# Altium integrated library Lattice CPLD ispMACH 4000B.IntLib: 180 symbols (part 8 of 28)
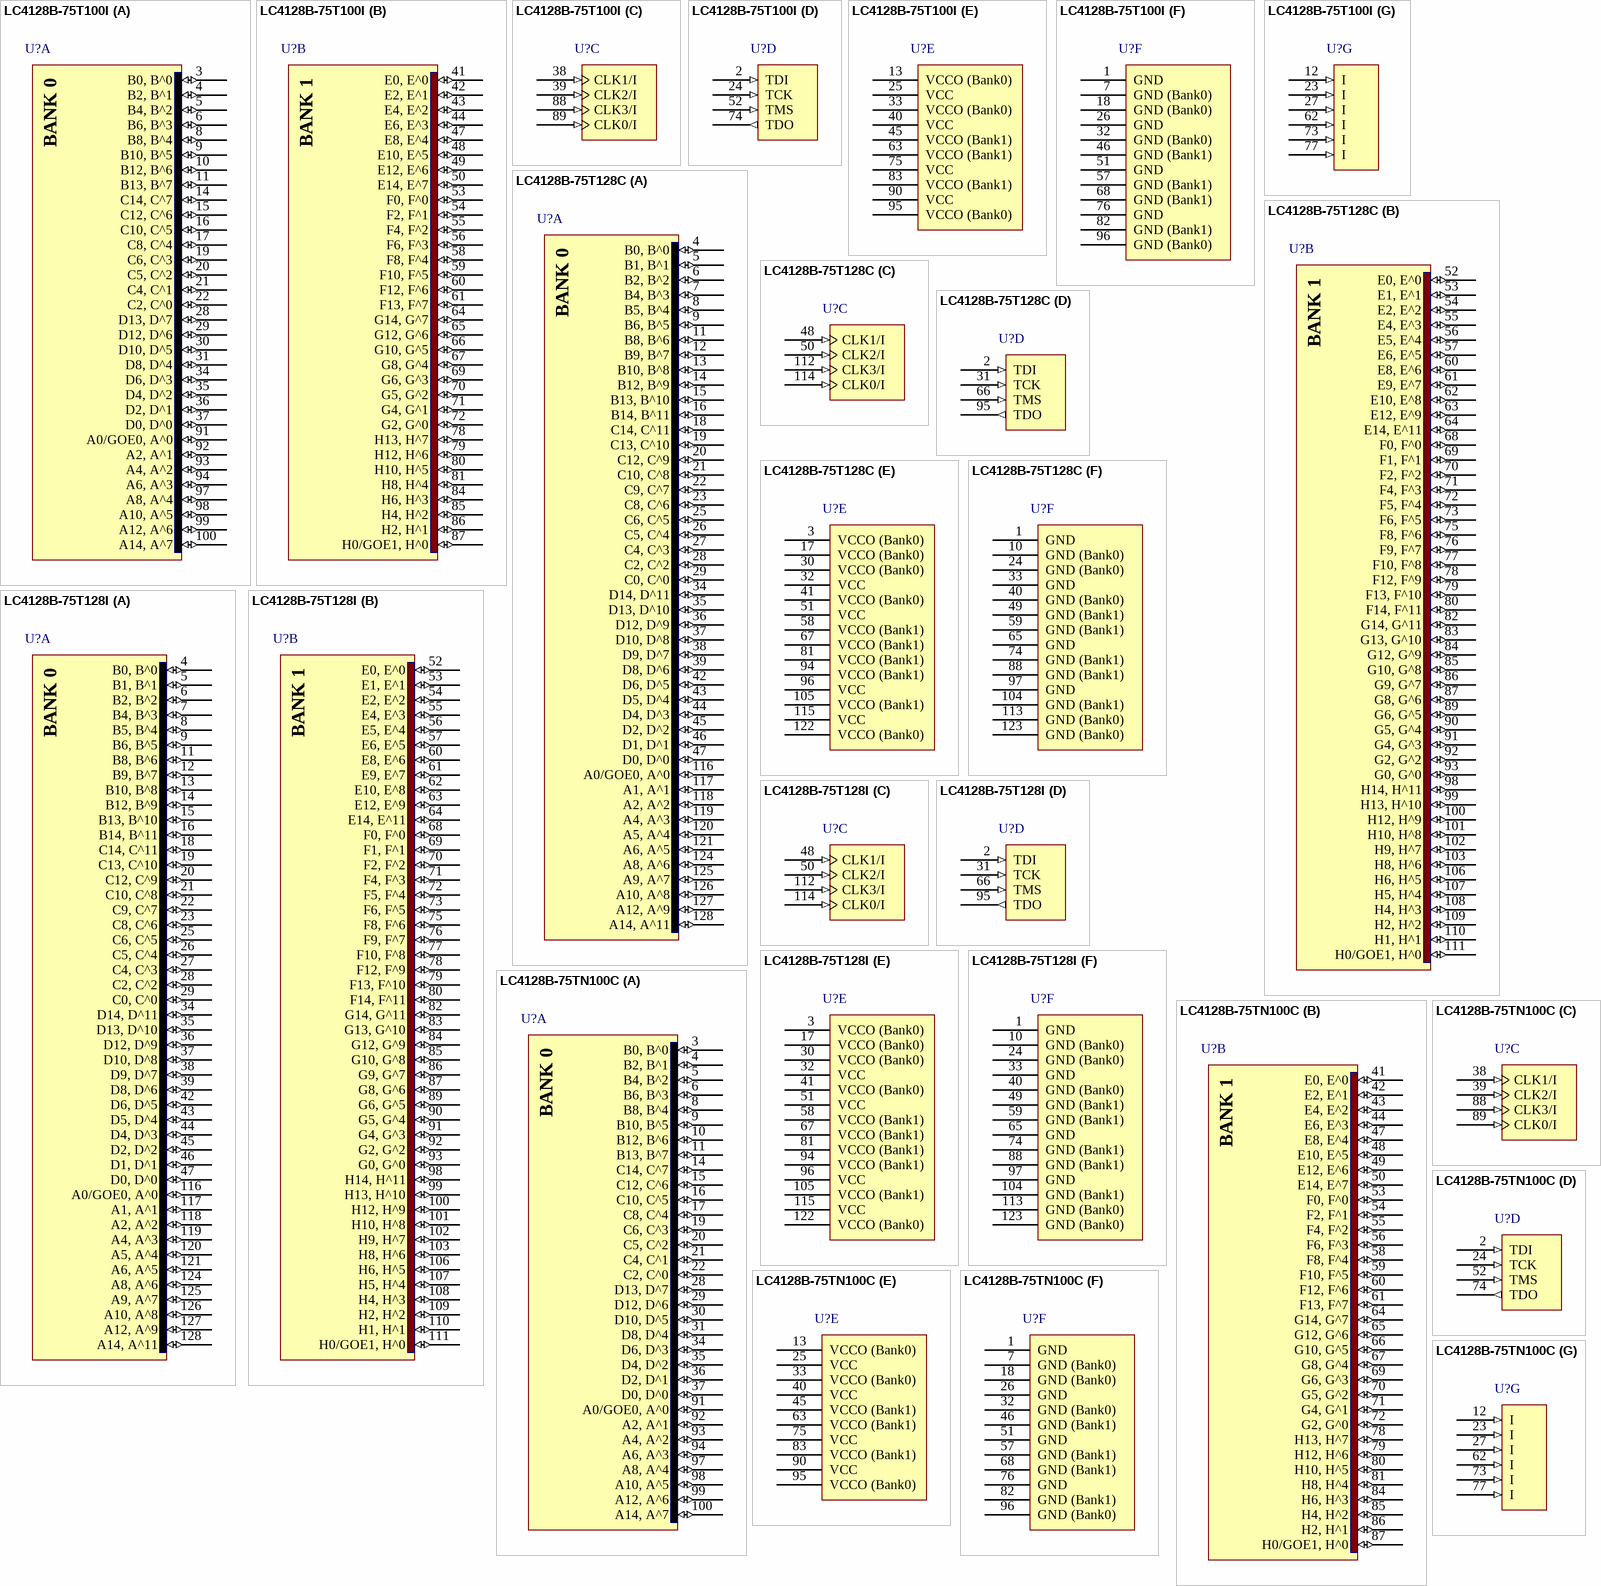
[diagram p85: symbols LC4128B-75T100I to LC4128B-75TN100C]

## LC4128B-75T128I
designator U?
ispMACH 4128 SuperFAST High Density PLD, 2.5 V, 92 User I/Os, 128-Pin TQFP, 7.5 ns, Industrial Grade; Published: 17-Dec-2003; LatestRevisionDate: 30-Mar-2007; LatestRevisionNote: Banks placed in parts.; DatasheetVersion: ver22.3, Mar-2007; PackageVersion: ver01.2 Feb-2007; PackageReference: TQFP128; Publisher: Altium Limited; PackageDescription: 128-Pin Thin Quad Flat Pack 0.4 mm Pitch (TQFP128); ComponentLink1Description: Manufacturer Link; ComponentLink1URL: http://www.latticesemi.com/; ComponentLink2Description: Datasheet; ComponentLink2URL: http://www.latticesemi.com/dynamic/view_document.cfm?document_id=3646
footprint TQFP128_N (Thin QFP, 128-Leads, Body 14x14mm, Pitch 0.4mm, IPC Medium Density)
footprint TQFP128_L (Thin QFP, 128-Leads, Body 14x14mm, Pitch 0.4mm, IPC High Density)
footprint TQFP128_M (Thin QFP, 128-Leads, Body 14x14mm, Pitch 0.4mm, IPC Low Density)
3D model 4128B-TQFP128 (128-Pin Thin Quad Flat Pack 0.4 mm Pitch (TQFP128))
part A pins: 4 B0, B^0 (io) "General purpose I/O.", 5 B1, B^1 (io) "General purpose I/O.", 6 B2, B^2 (io) "General purpose I/O.", 7 B4, B^3 (io) "General purpose I/O.", 8 B5, B^4 (io) "General purpose I/O.", 9 B6, B^5 (io) "General purpose I/O.", 11 B8, B^6 (io) "General purpose I/O.", 12 B9, B^7 (io) "General purpose I/O.", 13 B10, B^8 (io) "General purpose I/O.", 14 B12, B^9 (io) "General purpose I/O.", 15 B13, B^10 (io) "General purpose I/O.", 16 B14, B^11 (io) "General purpose I/O.", 18 C14, C^11 (io) "General purpose I/O.", 19 C13, C^10 (io) "General purpose I/O.", 20 C12, C^9 (io) "General purpose I/O.", 21 C10, C^8 (io) "General purpose I/O.", 22 C9, C^7 (io) "General purpose I/O.", 23 C8, C^6 (io) "General purpose I/O.", 25 C6, C^5 (io) "General purpose I/O.", 26 C5, C^4 (io) "General purpose I/O.", 27 C4, C^3 (io) "General purpose I/O.", 28 C2, C^2 (io) "General purpose I/O.", 29 C0, C^0 (io) "General purpose I/O.", 34 D14, D^11 (io) "General purpose I/O.", 35 D13, D^10 (io) "General purpose I/O.", 36 D12, D^9 (io) "General purpose I/O.", 37 D10, D^8 (io) "General purpose I/O.", 38 D9, D^7 (io) "General purpose I/O.", 39 D8, D^6 (io) "General purpose I/O.", 42 D6, D^5 (io) "General purpose I/O.", 43 D5, D^4 (io) "General purpose I/O.", 44 D4, D^3 (io) "General purpose I/O.", 45 D2, D^2 (io) "General purpose I/O.", 46 D1, D^1 (io) "General purpose I/O.", 47 D0, D^0 (io) "General purpose I/O.", 116 A0/GOE0, A^0 (io) "Either Global Output Enable Input or general I/O.", 117 A1, A^1 (io) "General purpose I/O.", 118 A2, A^2 (io) "General purpose I/O.", 119 A4, A^3 (io) "General purpose I/O.", 120 A5, A^4 (io) "General purpose I/O.", 121 A6, A^5 (io) "General purpose I/O.", 124 A8, A^6 (io) "General purpose I/O.", 125 A9, A^7 (io) "General purpose I/O.", 126 A10, A^8 (io) "General purpose I/O.", 127 A12, A^9 (io) "General purpose I/O.", 128 A14, A^11 (io) "General purpose I/O."
part B pins: 52 E0, E^0 (io) "General purpose I/O.", 53 E1, E^1 (io) "General purpose I/O.", 54 E2, E^2 (io) "General purpose I/O.", 55 E4, E^3 (io) "General purpose I/O.", 56 E5, E^4 (io) "General purpose I/O.", 57 E6, E^5 (io) "General purpose I/O.", 60 E8, E^6 (io) "General purpose I/O.", 61 E9, E^7 (io) "General purpose I/O.", 62 E10, E^8 (io) "General purpose I/O.", 63 E12, E^9 (io) "General purpose I/O.", 64 E14, E^11 (io) "General purpose I/O.", 68 F0, F^0 (io) "General purpose I/O.", 69 F1, F^1 (io) "General purpose I/O.", 70 F2, F^2 (io) "General purpose I/O.", 71 F4, F^3 (io) "General purpose I/O.", 72 F5, F^4 (io) "General purpose I/O.", 73 F6, F^5 (io) "General purpose I/O.", 75 F8, F^6 (io) "General purpose I/O.", 76 F9, F^7 (io) "General purpose I/O.", 77 F10, F^8 (io) "General purpose I/O.", 78 F12, F^9 (io) "General purpose I/O.", 79 F13, F^10 (io) "General purpose I/O.", 80 F14, F^11 (io) "General purpose I/O.", 82 G14, G^11 (io) "General purpose I/O.", 83 G13, G^10 (io) "General purpose I/O.", 84 G12, G^9 (io) "General purpose I/O.", 85 G10, G^8 (io) "General purpose I/O.", 86 G9, G^7 (io) "General purpose I/O.", 87 G8, G^6 (io) "General purpose I/O.", 89 G6, G^5 (io) "General purpose I/O.", 90 G5, G^4 (io) "General purpose I/O.", 91 G4, G^3 (io) "General purpose I/O.", 92 G2, G^2 (io) "General purpose I/O.", 93 G0, G^0 (io) "General purpose I/O.", 98 H14, H^11 (io) "General purpose I/O.", 99 H13, H^10 (io) "General purpose I/O.", 100 H12, H^9 (io) "General purpose I/O.", 101 H10, H^8 (io) "General purpose I/O.", 102 H9, H^7 (io) "General purpose I/O.", 103 H8, H^6 (io) "General purpose I/O.", 106 H6, H^5 (io) "General purpose I/O.", 107 H5, H^4 (io) "General purpose I/O.", 108 H4, H^3 (io) "General purpose I/O.", 109 H2, H^2 (io) "General purpose I/O.", 110 H1, H^1 (io) "General purpose I/O.", 111 H0/GOE1, H^0 (io) "Either Global Output Enable Input or general I/O."
part C pins: 48 CLK1/I (in) "Either CLK input or input.", 50 CLK2/I (in) "Either CLK input or input.", 112 CLK3/I (in) "Either CLK input or input.", 114 CLK0/I (in) "Either CLK input or input."
part D pins: 2 TDI (in) "Test Data Input. Loads data into device using 1149.1 state machine.", 31 TCK (in) "Test Clock Input for 1149.1 state machine.", 66 TMS (in) "Test Mode Select Input to control 1149.1 state machine.", 95 TDO (out) "Test Data Output. Shifts data out of device using 1149.1."
part E pins: 3 VCCO (Bank0) (power) "Power supply pin for I/O bank.", 17 VCCO (Bank0) (power) "Power supply pin for I/O bank.", 30 VCCO (Bank0) (power) "Power supply pin for I/O bank.", 32 VCC (power) "Power supply for logic core and JTAG port.", 41 VCCO (Bank0) (power) "Power supply pin for I/O bank.", 51 VCC (power) "Power supply for logic core and JTAG port.", 58 VCCO (Bank1) (power) "Power supply pin for I/O bank.", 67 VCCO (Bank1) (power) "Power supply pin for I/O bank.", 81 VCCO (Bank1) (power) "Power supply pin for I/O bank.", 94 VCCO (Bank1) (power) "Power supply pin for I/O bank.", 96 VCC (power) "Power supply for logic core and JTAG port.", 105 VCCO (Bank1) (power) "Power supply pin for I/O bank.", 115 VCC (power) "Power supply for logic core and JTAG port.", 122 VCCO (Bank0) (power) "Power supply pin for I/O bank."
part F pins: 1 GND (power) "Ground", 10 GND (Bank0) (power) "I/O Ground", 24 GND (Bank0) (power) "I/O Ground", 33 GND (power) "Ground", 40 GND (Bank0) (power) "I/O Ground", 49 GND (Bank1) (power) "I/O Ground", 59 GND (Bank1) (power) "I/O Ground", 65 GND (power) "Ground", 74 GND (Bank1) (power) "I/O Ground", 88 GND (Bank1) (power) "I/O Ground", 97 GND (power) "Ground", 104 GND (Bank1) (power) "I/O Ground", 113 GND (Bank0) (power) "I/O Ground", 123 GND (Bank0) (power) "I/O Ground"
part A text: BANK 0
part B text: BANK 1

## LC4128B-75TN100C
designator U?
ispMACH 4128 SuperFAST High Density PLD, 2.5 V, 64 User I/Os, 100-Pin TQFP, 7.5 ns, Commercial Grade, Pb-Free; Published: 6-Oct-2005; LatestRevisionDate: 30-Mar-2007; LatestRevisionNote: Banks placed in parts.; DatasheetVersion: ver22.3, Mar-2007; PackageVersion: ver01.2 Feb-2007; PackageReference: TQFP100; Publisher: Altium Limited; PackageDescription: 100-Pin Thin Quad Flat Pack (TQFP100); Code_JEDEC: MS-026-BED; ComponentLink1Description: Manufacturer Link; ComponentLink1URL: http://www.latticesemi.com/; ComponentLink2Description: Datasheet; ComponentLink2URL: http://www.latticesemi.com/dynamic/view_document.cfm?document_id=3646
footprint TQFP100_N (Thin QFP, 100-Leads, Body 14x14mm, Pitch 0.5mm, IPC Medium Density)
footprint TQFP100_L (Thin QFP, 100-Leads, Body 14x14mm, Pitch 0.5mm, IPC High Density)
footprint TQFP100_M (Thin QFP, 100-Leads, Body 14x14mm, Pitch 0.5mm, IPC Low Density)
3D model 4128B-TQFP100 (100-Pin Thin Quad Flat Pack (TQFP100))
part A pins: 3 B0, B^0 (io) "General purpose I/O.", 4 B2, B^1 (io) "General purpose I/O.", 5 B4, B^2 (io) "General purpose I/O.", 6 B6, B^3 (io) "General purpose I/O.", 8 B8, B^4 (io) "General purpose I/O.", 9 B10, B^5 (io) "General purpose I/O.", 10 B12, B^6 (io) "General purpose I/O.", 11 B13, B^7 (io) "General purpose I/O.", 14 C14, C^7 (io) "General purpose I/O.", 15 C12, C^6 (io) "General purpose I/O.", 16 C10, C^5 (io) "General purpose I/O.", 17 C8, C^4 (io) "General purpose I/O.", 19 C6, C^3 (io) "General purpose I/O.", 20 C5, C^2 (io) "General purpose I/O.", 21 C4, C^1 (io) "General purpose I/O.", 22 C2, C^0 (io) "General purpose I/O.", 28 D13, D^7 (io) "General purpose I/O.", 29 D12, D^6 (io) "General purpose I/O.", 30 D10, D^5 (io) "General purpose I/O.", 31 D8, D^4 (io) "General purpose I/O.", 34 D6, D^3 (io) "General purpose I/O.", 35 D4, D^2 (io) "General purpose I/O.", 36 D2, D^1 (io) "General purpose I/O.", 37 D0, D^0 (io) "General purpose I/O.", 91 A0/GOE0, A^0 (io) "Either Global Output Enable Input or general I/O.", 92 A2, A^1 (io) "General purpose I/O.", 93 A4, A^2 (io) "General purpose I/O.", 94 A6, A^3 (io) "General purpose I/O.", 97 A8, A^4 (io) "General purpose I/O.", 98 A10, A^5 (io) "General purpose I/O.", 99 A12, A^6 (io) "General purpose I/O.", 100 A14, A^7 (io) "General purpose I/O."
part B pins: 41 E0, E^0 (io) "General purpose I/O.", 42 E2, E^1 (io) "General purpose I/O.", 43 E4, E^2 (io) "General purpose I/O.", 44 E6, E^3 (io) "General purpose I/O.", 47 E8, E^4 (io) "General purpose I/O.", 48 E10, E^5 (io) "General purpose I/O.", 49 E12, E^6 (io) "General purpose I/O.", 50 E14, E^7 (io) "General purpose I/O.", 53 F0, F^0 (io) "General purpose I/O.", 54 F2, F^1 (io) "General purpose I/O.", 55 F4, F^2 (io) "General purpose I/O.", 56 F6, F^3 (io) "General purpose I/O.", 58 F8, F^4 (io) "General purpose I/O.", 59 F10, F^5 (io) "General purpose I/O.", 60 F12, F^6 (io) "General purpose I/O.", 61 F13, F^7 (io) "General purpose I/O.", 64 G14, G^7 (io) "General purpose I/O.", 65 G12, G^6 (io) "General purpose I/O.", 66 G10, G^5 (io) "General purpose I/O.", 67 G8, G^4 (io) "General purpose I/O.", 69 G6, G^3 (io) "General purpose I/O.", 70 G5, G^2 (io) "General purpose I/O.", 71 G4, G^1 (io) "General purpose I/O.", 72 G2, G^0 (io) "General purpose I/O.", 78 H13, H^7 (io) "General purpose I/O.", 79 H12, H^6 (io) "General purpose I/O.", 80 H10, H^5 (io) "General purpose I/O.", 81 H8, H^4 (io) "General purpose I/O.", 84 H6, H^3 (io) "General purpose I/O.", 85 H4, H^2 (io) "General purpose I/O.", 86 H2, H^1 (io) "General purpose I/O.", 87 H0/GOE1, H^0 (io) "Either Global Output Enable Input or general I/O."
part C pins: 38 CLK1/I (in) "Either CLK input or input.", 39 CLK2/I (in) "Either CLK input or input.", 88 CLK3/I (in) "Either CLK input or input.", 89 CLK0/I (in) "Either CLK input or input."
part D pins: 2 TDI (in) "Test Data Input. Loads data into device using 1149.1 state machine.", 24 TCK (in) "Test Clock Input for 1149.1 state machine.", 52 TMS (in) "Test Mode Select Input to control 1149.1 state machine.", 74 TDO (out) "Test Data Output. Shifts data out of device using 1149.1."
part E pins: 13 VCCO (Bank0) (power) "Power supply pin for I/O bank.", 25 VCC (power) "Power supply for logic core and JTAG port.", 33 VCCO (Bank0) (power) "Power supply pin for I/O bank.", 40 VCC (power) "Power supply for logic core and JTAG port.", 45 VCCO (Bank1) (power) "Power supply pin for I/O bank.", 63 VCCO (Bank1) (power) "Power supply pin for I/O bank.", 75 VCC (power) "Power supply for logic core and JTAG port.", 83 VCCO (Bank1) (power) "Power supply pin for I/O bank.", 90 VCC (power) "Power supply for logic core and JTAG port.", 95 VCCO (Bank0) (power) "Power supply pin for I/O bank."
part F pins: 1 GND (power) "Ground", 7 GND (Bank0) (power) "I/O Ground", 18 GND (Bank0) (power) "I/O Ground", 26 GND (power) "Ground", 32 GND (Bank0) (power) "I/O Ground", 46 GND (Bank1) (power) "I/O Ground", 51 GND (power) "Ground", 57 GND (Bank1) (power) "I/O Ground", 68 GND (Bank1) (power) "I/O Ground", 76 GND (power) "Ground", 82 GND (Bank1) (power) "I/O Ground", 96 GND (Bank0) (power) "I/O Ground"
part G pins: 12 I (in) "Input Signal Pin.", 23 I (in) "Input Signal Pin.", 27 I (in) "Input Signal Pin.", 62 I (in) "Input Signal Pin.", 73 I (in) "Input Signal Pin.", 77 I (in) "Input Signal Pin."
part A text: BANK 0
part B text: BANK 1

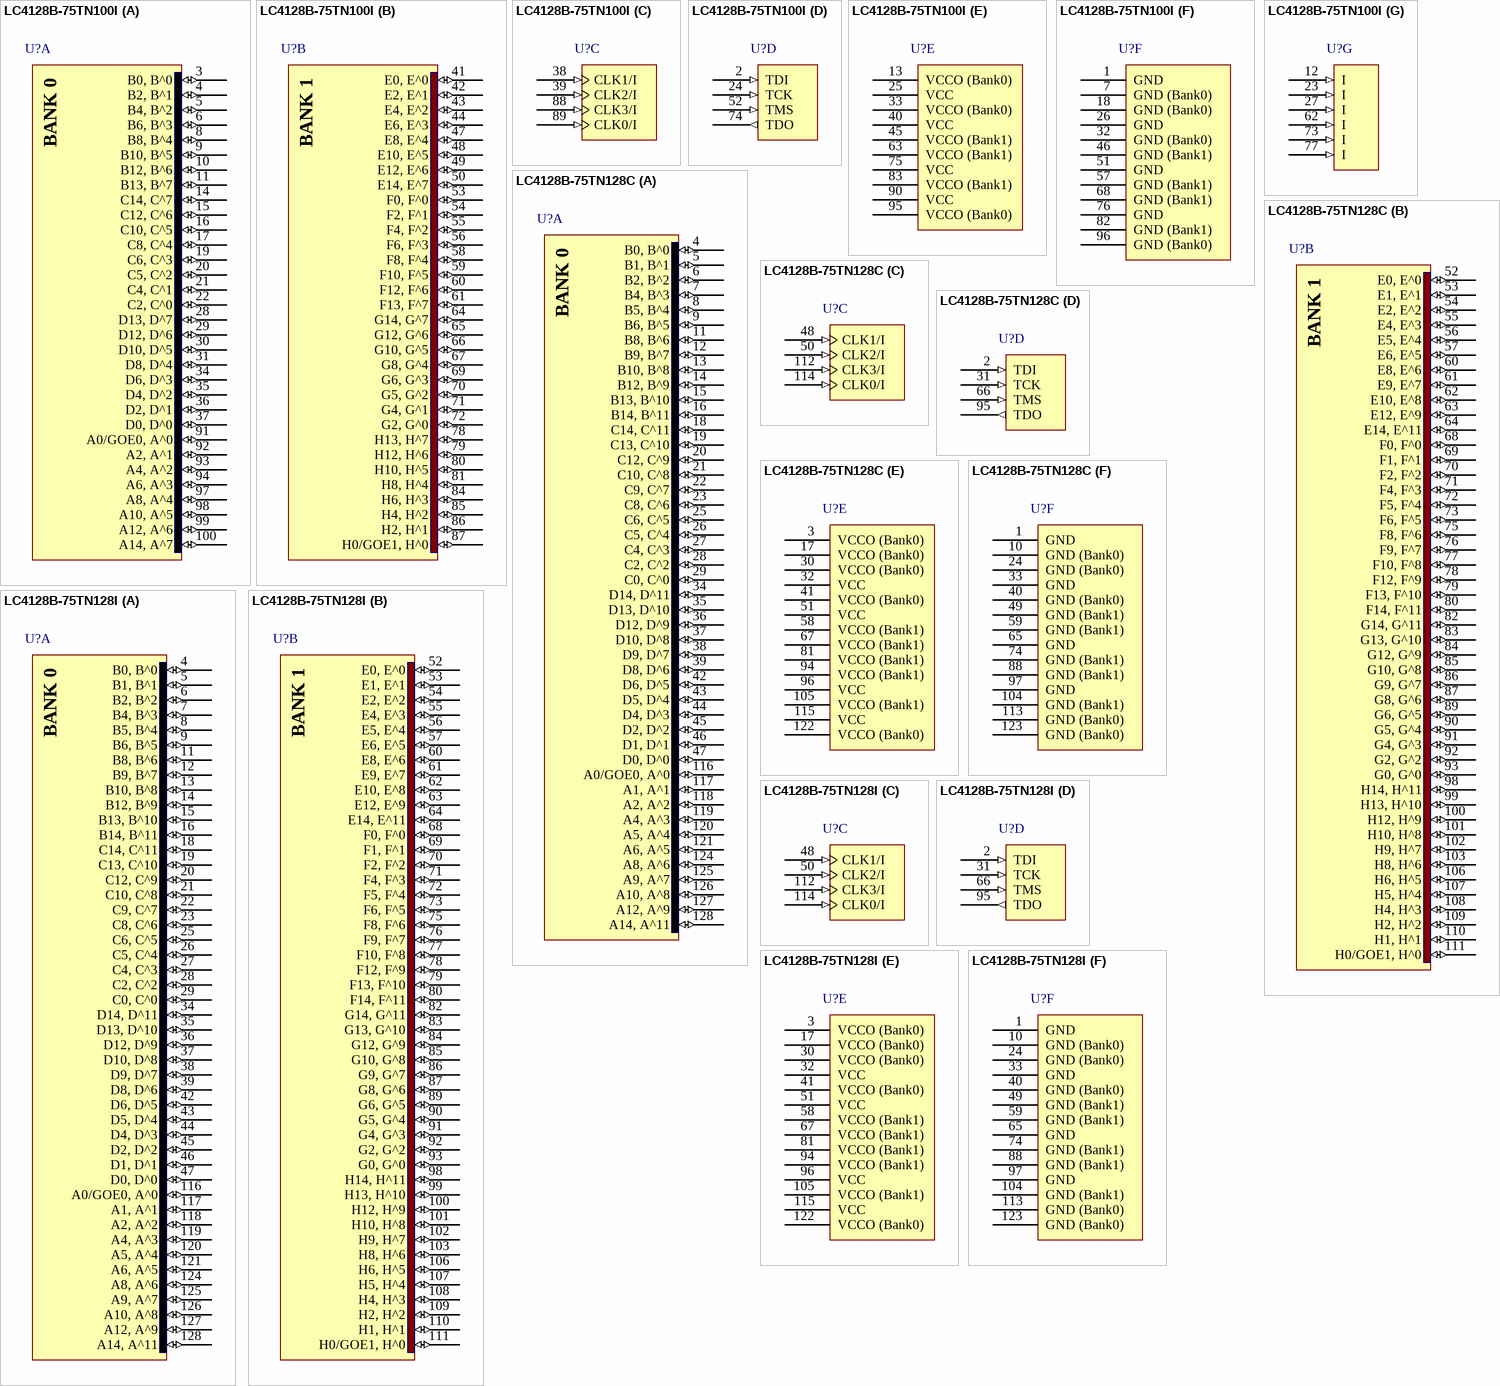
[diagram p16: symbols LC4128B-75TN100I to LC4128B-75TN128I]

## LC4128B-75TN100I
designator U?
ispMACH 4128 SuperFAST High Density PLD, 2.5 V, 64 User I/Os, 100-Pin TQFP, 7.5 ns, Industrial Grade, Pb-Free; Published: 6-Oct-2005; LatestRevisionDate: 30-Mar-2007; LatestRevisionNote: Banks placed in parts.; DatasheetVersion: ver22.3, Mar-2007; PackageVersion: ver01.2 Feb-2007; PackageReference: TQFP100; Publisher: Altium Limited; PackageDescription: 100-Pin Thin Quad Flat Pack (TQFP100); Code_JEDEC: MS-026-BED; ComponentLink1Description: Manufacturer Link; ComponentLink1URL: http://www.latticesemi.com/; ComponentLink2Description: Datasheet; ComponentLink2URL: http://www.latticesemi.com/dynamic/view_document.cfm?document_id=3646
footprint TQFP100_N (Thin QFP, 100-Leads, Body 14x14mm, Pitch 0.5mm, IPC Medium Density)
footprint TQFP100_L (Thin QFP, 100-Leads, Body 14x14mm, Pitch 0.5mm, IPC High Density)
footprint TQFP100_M (Thin QFP, 100-Leads, Body 14x14mm, Pitch 0.5mm, IPC Low Density)
3D model 4128B-TQFP100 (100-Pin Thin Quad Flat Pack (TQFP100))
part A pins: 3 B0, B^0 (io) "General purpose I/O.", 4 B2, B^1 (io) "General purpose I/O.", 5 B4, B^2 (io) "General purpose I/O.", 6 B6, B^3 (io) "General purpose I/O.", 8 B8, B^4 (io) "General purpose I/O.", 9 B10, B^5 (io) "General purpose I/O.", 10 B12, B^6 (io) "General purpose I/O.", 11 B13, B^7 (io) "General purpose I/O.", 14 C14, C^7 (io) "General purpose I/O.", 15 C12, C^6 (io) "General purpose I/O.", 16 C10, C^5 (io) "General purpose I/O.", 17 C8, C^4 (io) "General purpose I/O.", 19 C6, C^3 (io) "General purpose I/O.", 20 C5, C^2 (io) "General purpose I/O.", 21 C4, C^1 (io) "General purpose I/O.", 22 C2, C^0 (io) "General purpose I/O.", 28 D13, D^7 (io) "General purpose I/O.", 29 D12, D^6 (io) "General purpose I/O.", 30 D10, D^5 (io) "General purpose I/O.", 31 D8, D^4 (io) "General purpose I/O.", 34 D6, D^3 (io) "General purpose I/O.", 35 D4, D^2 (io) "General purpose I/O.", 36 D2, D^1 (io) "General purpose I/O.", 37 D0, D^0 (io) "General purpose I/O.", 91 A0/GOE0, A^0 (io) "Either Global Output Enable Input or general I/O.", 92 A2, A^1 (io) "General purpose I/O.", 93 A4, A^2 (io) "General purpose I/O.", 94 A6, A^3 (io) "General purpose I/O.", 97 A8, A^4 (io) "General purpose I/O.", 98 A10, A^5 (io) "General purpose I/O.", 99 A12, A^6 (io) "General purpose I/O.", 100 A14, A^7 (io) "General purpose I/O."
part B pins: 41 E0, E^0 (io) "General purpose I/O.", 42 E2, E^1 (io) "General purpose I/O.", 43 E4, E^2 (io) "General purpose I/O.", 44 E6, E^3 (io) "General purpose I/O.", 47 E8, E^4 (io) "General purpose I/O.", 48 E10, E^5 (io) "General purpose I/O.", 49 E12, E^6 (io) "General purpose I/O.", 50 E14, E^7 (io) "General purpose I/O.", 53 F0, F^0 (io) "General purpose I/O.", 54 F2, F^1 (io) "General purpose I/O.", 55 F4, F^2 (io) "General purpose I/O.", 56 F6, F^3 (io) "General purpose I/O.", 58 F8, F^4 (io) "General purpose I/O.", 59 F10, F^5 (io) "General purpose I/O.", 60 F12, F^6 (io) "General purpose I/O.", 61 F13, F^7 (io) "General purpose I/O.", 64 G14, G^7 (io) "General purpose I/O.", 65 G12, G^6 (io) "General purpose I/O.", 66 G10, G^5 (io) "General purpose I/O.", 67 G8, G^4 (io) "General purpose I/O.", 69 G6, G^3 (io) "General purpose I/O.", 70 G5, G^2 (io) "General purpose I/O.", 71 G4, G^1 (io) "General purpose I/O.", 72 G2, G^0 (io) "General purpose I/O.", 78 H13, H^7 (io) "General purpose I/O.", 79 H12, H^6 (io) "General purpose I/O.", 80 H10, H^5 (io) "General purpose I/O.", 81 H8, H^4 (io) "General purpose I/O.", 84 H6, H^3 (io) "General purpose I/O.", 85 H4, H^2 (io) "General purpose I/O.", 86 H2, H^1 (io) "General purpose I/O.", 87 H0/GOE1, H^0 (io) "Either Global Output Enable Input or general I/O."
part C pins: 38 CLK1/I (in) "Either CLK input or input.", 39 CLK2/I (in) "Either CLK input or input.", 88 CLK3/I (in) "Either CLK input or input.", 89 CLK0/I (in) "Either CLK input or input."
part D pins: 2 TDI (in) "Test Data Input. Loads data into device using 1149.1 state machine.", 24 TCK (in) "Test Clock Input for 1149.1 state machine.", 52 TMS (in) "Test Mode Select Input to control 1149.1 state machine.", 74 TDO (out) "Test Data Output. Shifts data out of device using 1149.1."
part E pins: 13 VCCO (Bank0) (power) "Power supply pin for I/O bank.", 25 VCC (power) "Power supply for logic core and JTAG port.", 33 VCCO (Bank0) (power) "Power supply pin for I/O bank.", 40 VCC (power) "Power supply for logic core and JTAG port.", 45 VCCO (Bank1) (power) "Power supply pin for I/O bank.", 63 VCCO (Bank1) (power) "Power supply pin for I/O bank.", 75 VCC (power) "Power supply for logic core and JTAG port.", 83 VCCO (Bank1) (power) "Power supply pin for I/O bank.", 90 VCC (power) "Power supply for logic core and JTAG port.", 95 VCCO (Bank0) (power) "Power supply pin for I/O bank."
part F pins: 1 GND (power) "Ground", 7 GND (Bank0) (power) "I/O Ground", 18 GND (Bank0) (power) "I/O Ground", 26 GND (power) "Ground", 32 GND (Bank0) (power) "I/O Ground", 46 GND (Bank1) (power) "I/O Ground", 51 GND (power) "Ground", 57 GND (Bank1) (power) "I/O Ground", 68 GND (Bank1) (power) "I/O Ground", 76 GND (power) "Ground", 82 GND (Bank1) (power) "I/O Ground", 96 GND (Bank0) (power) "I/O Ground"
part G pins: 12 I (in) "Input Signal Pin.", 23 I (in) "Input Signal Pin.", 27 I (in) "Input Signal Pin.", 62 I (in) "Input Signal Pin.", 73 I (in) "Input Signal Pin.", 77 I (in) "Input Signal Pin."
part A text: BANK 0
part B text: BANK 1

## LC4128B-75TN128C
designator U?
ispMACH 4128 SuperFAST High Density PLD, 2.5 V, 92 User I/Os, 128-Pin TQFP, 7.5 ns, Commercial Grade, Pb-Free; Published: 6-Oct-2005; LatestRevisionDate: 30-Mar-2007; LatestRevisionNote: Banks placed in parts.; DatasheetVersion: ver22.3, Mar-2007; PackageVersion: ver01.2 Feb-2007; PackageReference: TQFP128; Publisher: Altium Limited; PackageDescription: 128-Pin Thin Quad Flat Pack 0.4 mm Pitch (TQFP128); ComponentLink1Description: Manufacturer Link; ComponentLink1URL: http://www.latticesemi.com/; ComponentLink2Description: Datasheet; ComponentLink2URL: http://www.latticesemi.com/dynamic/view_document.cfm?document_id=3646
footprint TQFP128_N (Thin QFP, 128-Leads, Body 14x14mm, Pitch 0.4mm, IPC Medium Density)
footprint TQFP128_L (Thin QFP, 128-Leads, Body 14x14mm, Pitch 0.4mm, IPC High Density)
footprint TQFP128_M (Thin QFP, 128-Leads, Body 14x14mm, Pitch 0.4mm, IPC Low Density)
3D model 4128B-TQFP128 (128-Pin Thin Quad Flat Pack 0.4 mm Pitch (TQFP128))
part A pins: 4 B0, B^0 (io) "General purpose I/O.", 5 B1, B^1 (io) "General purpose I/O.", 6 B2, B^2 (io) "General purpose I/O.", 7 B4, B^3 (io) "General purpose I/O.", 8 B5, B^4 (io) "General purpose I/O.", 9 B6, B^5 (io) "General purpose I/O.", 11 B8, B^6 (io) "General purpose I/O.", 12 B9, B^7 (io) "General purpose I/O.", 13 B10, B^8 (io) "General purpose I/O.", 14 B12, B^9 (io) "General purpose I/O.", 15 B13, B^10 (io) "General purpose I/O.", 16 B14, B^11 (io) "General purpose I/O.", 18 C14, C^11 (io) "General purpose I/O.", 19 C13, C^10 (io) "General purpose I/O.", 20 C12, C^9 (io) "General purpose I/O.", 21 C10, C^8 (io) "General purpose I/O.", 22 C9, C^7 (io) "General purpose I/O.", 23 C8, C^6 (io) "General purpose I/O.", 25 C6, C^5 (io) "General purpose I/O.", 26 C5, C^4 (io) "General purpose I/O.", 27 C4, C^3 (io) "General purpose I/O.", 28 C2, C^2 (io) "General purpose I/O.", 29 C0, C^0 (io) "General purpose I/O.", 34 D14, D^11 (io) "General purpose I/O.", 35 D13, D^10 (io) "General purpose I/O.", 36 D12, D^9 (io) "General purpose I/O.", 37 D10, D^8 (io) "General purpose I/O.", 38 D9, D^7 (io) "General purpose I/O.", 39 D8, D^6 (io) "General purpose I/O.", 42 D6, D^5 (io) "General purpose I/O.", 43 D5, D^4 (io) "General purpose I/O.", 44 D4, D^3 (io) "General purpose I/O.", 45 D2, D^2 (io) "General purpose I/O.", 46 D1, D^1 (io) "General purpose I/O.", 47 D0, D^0 (io) "General purpose I/O.", 116 A0/GOE0, A^0 (io) "Either Global Output Enable Input or general I/O.", 117 A1, A^1 (io) "General purpose I/O.", 118 A2, A^2 (io) "General purpose I/O.", 119 A4, A^3 (io) "General purpose I/O.", 120 A5, A^4 (io) "General purpose I/O.", 121 A6, A^5 (io) "General purpose I/O.", 124 A8, A^6 (io) "General purpose I/O.", 125 A9, A^7 (io) "General purpose I/O.", 126 A10, A^8 (io) "General purpose I/O.", 127 A12, A^9 (io) "General purpose I/O.", 128 A14, A^11 (io) "General purpose I/O."
part B pins: 52 E0, E^0 (io) "General purpose I/O.", 53 E1, E^1 (io) "General purpose I/O.", 54 E2, E^2 (io) "General purpose I/O.", 55 E4, E^3 (io) "General purpose I/O.", 56 E5, E^4 (io) "General purpose I/O.", 57 E6, E^5 (io) "General purpose I/O.", 60 E8, E^6 (io) "General purpose I/O.", 61 E9, E^7 (io) "General purpose I/O.", 62 E10, E^8 (io) "General purpose I/O.", 63 E12, E^9 (io) "General purpose I/O.", 64 E14, E^11 (io) "General purpose I/O.", 68 F0, F^0 (io) "General purpose I/O.", 69 F1, F^1 (io) "General purpose I/O.", 70 F2, F^2 (io) "General purpose I/O.", 71 F4, F^3 (io) "General purpose I/O.", 72 F5, F^4 (io) "General purpose I/O.", 73 F6, F^5 (io) "General purpose I/O.", 75 F8, F^6 (io) "General purpose I/O.", 76 F9, F^7 (io) "General purpose I/O.", 77 F10, F^8 (io) "General purpose I/O.", 78 F12, F^9 (io) "General purpose I/O.", 79 F13, F^10 (io) "General purpose I/O.", 80 F14, F^11 (io) "General purpose I/O.", 82 G14, G^11 (io) "General purpose I/O.", 83 G13, G^10 (io) "General purpose I/O.", 84 G12, G^9 (io) "General purpose I/O.", 85 G10, G^8 (io) "General purpose I/O.", 86 G9, G^7 (io) "General purpose I/O.", 87 G8, G^6 (io) "General purpose I/O.", 89 G6, G^5 (io) "General purpose I/O.", 90 G5, G^4 (io) "General purpose I/O.", 91 G4, G^3 (io) "General purpose I/O.", 92 G2, G^2 (io) "General purpose I/O.", 93 G0, G^0 (io) "General purpose I/O.", 98 H14, H^11 (io) "General purpose I/O.", 99 H13, H^10 (io) "General purpose I/O.", 100 H12, H^9 (io) "General purpose I/O.", 101 H10, H^8 (io) "General purpose I/O.", 102 H9, H^7 (io) "General purpose I/O.", 103 H8, H^6 (io) "General purpose I/O.", 106 H6, H^5 (io) "General purpose I/O.", 107 H5, H^4 (io) "General purpose I/O.", 108 H4, H^3 (io) "General purpose I/O.", 109 H2, H^2 (io) "General purpose I/O.", 110 H1, H^1 (io) "General purpose I/O.", 111 H0/GOE1, H^0 (io) "Either Global Output Enable Input or general I/O."
part C pins: 48 CLK1/I (in) "Either CLK input or input.", 50 CLK2/I (in) "Either CLK input or input.", 112 CLK3/I (in) "Either CLK input or input.", 114 CLK0/I (in) "Either CLK input or input."
part D pins: 2 TDI (in) "Test Data Input. Loads data into device using 1149.1 state machine.", 31 TCK (in) "Test Clock Input for 1149.1 state machine.", 66 TMS (in) "Test Mode Select Input to control 1149.1 state machine.", 95 TDO (out) "Test Data Output. Shifts data out of device using 1149.1."
part E pins: 3 VCCO (Bank0) (power) "Power supply pin for I/O bank.", 17 VCCO (Bank0) (power) "Power supply pin for I/O bank.", 30 VCCO (Bank0) (power) "Power supply pin for I/O bank.", 32 VCC (power) "Power supply for logic core and JTAG port.", 41 VCCO (Bank0) (power) "Power supply pin for I/O bank.", 51 VCC (power) "Power supply for logic core and JTAG port.", 58 VCCO (Bank1) (power) "Power supply pin for I/O bank.", 67 VCCO (Bank1) (power) "Power supply pin for I/O bank.", 81 VCCO (Bank1) (power) "Power supply pin for I/O bank.", 94 VCCO (Bank1) (power) "Power supply pin for I/O bank.", 96 VCC (power) "Power supply for logic core and JTAG port.", 105 VCCO (Bank1) (power) "Power supply pin for I/O bank.", 115 VCC (power) "Power supply for logic core and JTAG port.", 122 VCCO (Bank0) (power) "Power supply pin for I/O bank."
part F pins: 1 GND (power) "Ground", 10 GND (Bank0) (power) "I/O Ground", 24 GND (Bank0) (power) "I/O Ground", 33 GND (power) "Ground", 40 GND (Bank0) (power) "I/O Ground", 49 GND (Bank1) (power) "I/O Ground", 59 GND (Bank1) (power) "I/O Ground", 65 GND (power) "Ground", 74 GND (Bank1) (power) "I/O Ground", 88 GND (Bank1) (power) "I/O Ground", 97 GND (power) "Ground", 104 GND (Bank1) (power) "I/O Ground", 113 GND (Bank0) (power) "I/O Ground", 123 GND (Bank0) (power) "I/O Ground"
part A text: BANK 0
part B text: BANK 1

## LC4128B-75TN128I
designator U?
ispMACH 4128 SuperFAST High Density PLD, 2.5 V, 92 User I/Os, 128-Pin TQFP, 7.5 ns, Industrial Grade, Pb-Free; Published: 6-Oct-2005; LatestRevisionDate: 30-Mar-2007; LatestRevisionNote: Banks placed in parts.; DatasheetVersion: ver22.3, Mar-2007; PackageVersion: ver01.2 Feb-2007; PackageReference: TQFP128; Publisher: Altium Limited; PackageDescription: 128-Pin Thin Quad Flat Pack 0.4 mm Pitch (TQFP128); ComponentLink1Description: Manufacturer Link; ComponentLink1URL: http://www.latticesemi.com/; ComponentLink2Description: Datasheet; ComponentLink2URL: http://www.latticesemi.com/dynamic/view_document.cfm?document_id=3646
footprint TQFP128_N (Thin QFP, 128-Leads, Body 14x14mm, Pitch 0.4mm, IPC Medium Density)
footprint TQFP128_L (Thin QFP, 128-Leads, Body 14x14mm, Pitch 0.4mm, IPC High Density)
footprint TQFP128_M (Thin QFP, 128-Leads, Body 14x14mm, Pitch 0.4mm, IPC Low Density)
3D model 4128B-TQFP128 (128-Pin Thin Quad Flat Pack 0.4 mm Pitch (TQFP128))
part A pins: 4 B0, B^0 (io) "General purpose I/O.", 5 B1, B^1 (io) "General purpose I/O.", 6 B2, B^2 (io) "General purpose I/O.", 7 B4, B^3 (io) "General purpose I/O.", 8 B5, B^4 (io) "General purpose I/O.", 9 B6, B^5 (io) "General purpose I/O.", 11 B8, B^6 (io) "General purpose I/O.", 12 B9, B^7 (io) "General purpose I/O.", 13 B10, B^8 (io) "General purpose I/O.", 14 B12, B^9 (io) "General purpose I/O.", 15 B13, B^10 (io) "General purpose I/O.", 16 B14, B^11 (io) "General purpose I/O.", 18 C14, C^11 (io) "General purpose I/O.", 19 C13, C^10 (io) "General purpose I/O.", 20 C12, C^9 (io) "General purpose I/O.", 21 C10, C^8 (io) "General purpose I/O.", 22 C9, C^7 (io) "General purpose I/O.", 23 C8, C^6 (io) "General purpose I/O.", 25 C6, C^5 (io) "General purpose I/O.", 26 C5, C^4 (io) "General purpose I/O.", 27 C4, C^3 (io) "General purpose I/O.", 28 C2, C^2 (io) "General purpose I/O.", 29 C0, C^0 (io) "General purpose I/O.", 34 D14, D^11 (io) "General purpose I/O.", 35 D13, D^10 (io) "General purpose I/O.", 36 D12, D^9 (io) "General purpose I/O.", 37 D10, D^8 (io) "General purpose I/O.", 38 D9, D^7 (io) "General purpose I/O.", 39 D8, D^6 (io) "General purpose I/O.", 42 D6, D^5 (io) "General purpose I/O.", 43 D5, D^4 (io) "General purpose I/O.", 44 D4, D^3 (io) "General purpose I/O.", 45 D2, D^2 (io) "General purpose I/O.", 46 D1, D^1 (io) "General purpose I/O.", 47 D0, D^0 (io) "General purpose I/O.", 116 A0/GOE0, A^0 (io) "Either Global Output Enable Input or general I/O.", 117 A1, A^1 (io) "General purpose I/O.", 118 A2, A^2 (io) "General purpose I/O.", 119 A4, A^3 (io) "General purpose I/O.", 120 A5, A^4 (io) "General purpose I/O.", 121 A6, A^5 (io) "General purpose I/O.", 124 A8, A^6 (io) "General purpose I/O.", 125 A9, A^7 (io) "General purpose I/O.", 126 A10, A^8 (io) "General purpose I/O.", 127 A12, A^9 (io) "General purpose I/O.", 128 A14, A^11 (io) "General purpose I/O."
part B pins: 52 E0, E^0 (io) "General purpose I/O.", 53 E1, E^1 (io) "General purpose I/O.", 54 E2, E^2 (io) "General purpose I/O.", 55 E4, E^3 (io) "General purpose I/O.", 56 E5, E^4 (io) "General purpose I/O.", 57 E6, E^5 (io) "General purpose I/O.", 60 E8, E^6 (io) "General purpose I/O.", 61 E9, E^7 (io) "General purpose I/O.", 62 E10, E^8 (io) "General purpose I/O.", 63 E12, E^9 (io) "General purpose I/O.", 64 E14, E^11 (io) "General purpose I/O.", 68 F0, F^0 (io) "General purpose I/O.", 69 F1, F^1 (io) "General purpose I/O.", 70 F2, F^2 (io) "General purpose I/O.", 71 F4, F^3 (io) "General purpose I/O.", 72 F5, F^4 (io) "General purpose I/O.", 73 F6, F^5 (io) "General purpose I/O.", 75 F8, F^6 (io) "General purpose I/O.", 76 F9, F^7 (io) "General purpose I/O.", 77 F10, F^8 (io) "General purpose I/O.", 78 F12, F^9 (io) "General purpose I/O.", 79 F13, F^10 (io) "General purpose I/O.", 80 F14, F^11 (io) "General purpose I/O.", 82 G14, G^11 (io) "General purpose I/O.", 83 G13, G^10 (io) "General purpose I/O.", 84 G12, G^9 (io) "General purpose I/O.", 85 G10, G^8 (io) "General purpose I/O.", 86 G9, G^7 (io) "General purpose I/O.", 87 G8, G^6 (io) "General purpose I/O.", 89 G6, G^5 (io) "General purpose I/O.", 90 G5, G^4 (io) "General purpose I/O.", 91 G4, G^3 (io) "General purpose I/O.", 92 G2, G^2 (io) "General purpose I/O.", 93 G0, G^0 (io) "General purpose I/O.", 98 H14, H^11 (io) "General purpose I/O.", 99 H13, H^10 (io) "General purpose I/O.", 100 H12, H^9 (io) "General purpose I/O.", 101 H10, H^8 (io) "General purpose I/O.", 102 H9, H^7 (io) "General purpose I/O.", 103 H8, H^6 (io) "General purpose I/O.", 106 H6, H^5 (io) "General purpose I/O.", 107 H5, H^4 (io) "General purpose I/O.", 108 H4, H^3 (io) "General purpose I/O.", 109 H2, H^2 (io) "General purpose I/O.", 110 H1, H^1 (io) "General purpose I/O.", 111 H0/GOE1, H^0 (io) "Either Global Output Enable Input or general I/O."
part C pins: 48 CLK1/I (in) "Either CLK input or input.", 50 CLK2/I (in) "Either CLK input or input.", 112 CLK3/I (in) "Either CLK input or input.", 114 CLK0/I (in) "Either CLK input or input."
part D pins: 2 TDI (in) "Test Data Input. Loads data into device using 1149.1 state machine.", 31 TCK (in) "Test Clock Input for 1149.1 state machine.", 66 TMS (in) "Test Mode Select Input to control 1149.1 state machine.", 95 TDO (out) "Test Data Output. Shifts data out of device using 1149.1."
part E pins: 3 VCCO (Bank0) (power) "Power supply pin for I/O bank.", 17 VCCO (Bank0) (power) "Power supply pin for I/O bank.", 30 VCCO (Bank0) (power) "Power supply pin for I/O bank.", 32 VCC (power) "Power supply for logic core and JTAG port.", 41 VCCO (Bank0) (power) "Power supply pin for I/O bank.", 51 VCC (power) "Power supply for logic core and JTAG port.", 58 VCCO (Bank1) (power) "Power supply pin for I/O bank.", 67 VCCO (Bank1) (power) "Power supply pin for I/O bank.", 81 VCCO (Bank1) (power) "Power supply pin for I/O bank.", 94 VCCO (Bank1) (power) "Power supply pin for I/O bank.", 96 VCC (power) "Power supply for logic core and JTAG port.", 105 VCCO (Bank1) (power) "Power supply pin for I/O bank.", 115 VCC (power) "Power supply for logic core and JTAG port.", 122 VCCO (Bank0) (power) "Power supply pin for I/O bank."
part F pins: 1 GND (power) "Ground", 10 GND (Bank0) (power) "I/O Ground", 24 GND (Bank0) (power) "I/O Ground", 33 GND (power) "Ground", 40 GND (Bank0) (power) "I/O Ground", 49 GND (Bank1) (power) "I/O Ground", 59 GND (Bank1) (power) "I/O Ground", 65 GND (power) "Ground", 74 GND (Bank1) (power) "I/O Ground", 88 GND (Bank1) (power) "I/O Ground", 97 GND (power) "Ground", 104 GND (Bank1) (power) "I/O Ground", 113 GND (Bank0) (power) "I/O Ground", 123 GND (Bank0) (power) "I/O Ground"
part A text: BANK 0
part B text: BANK 1

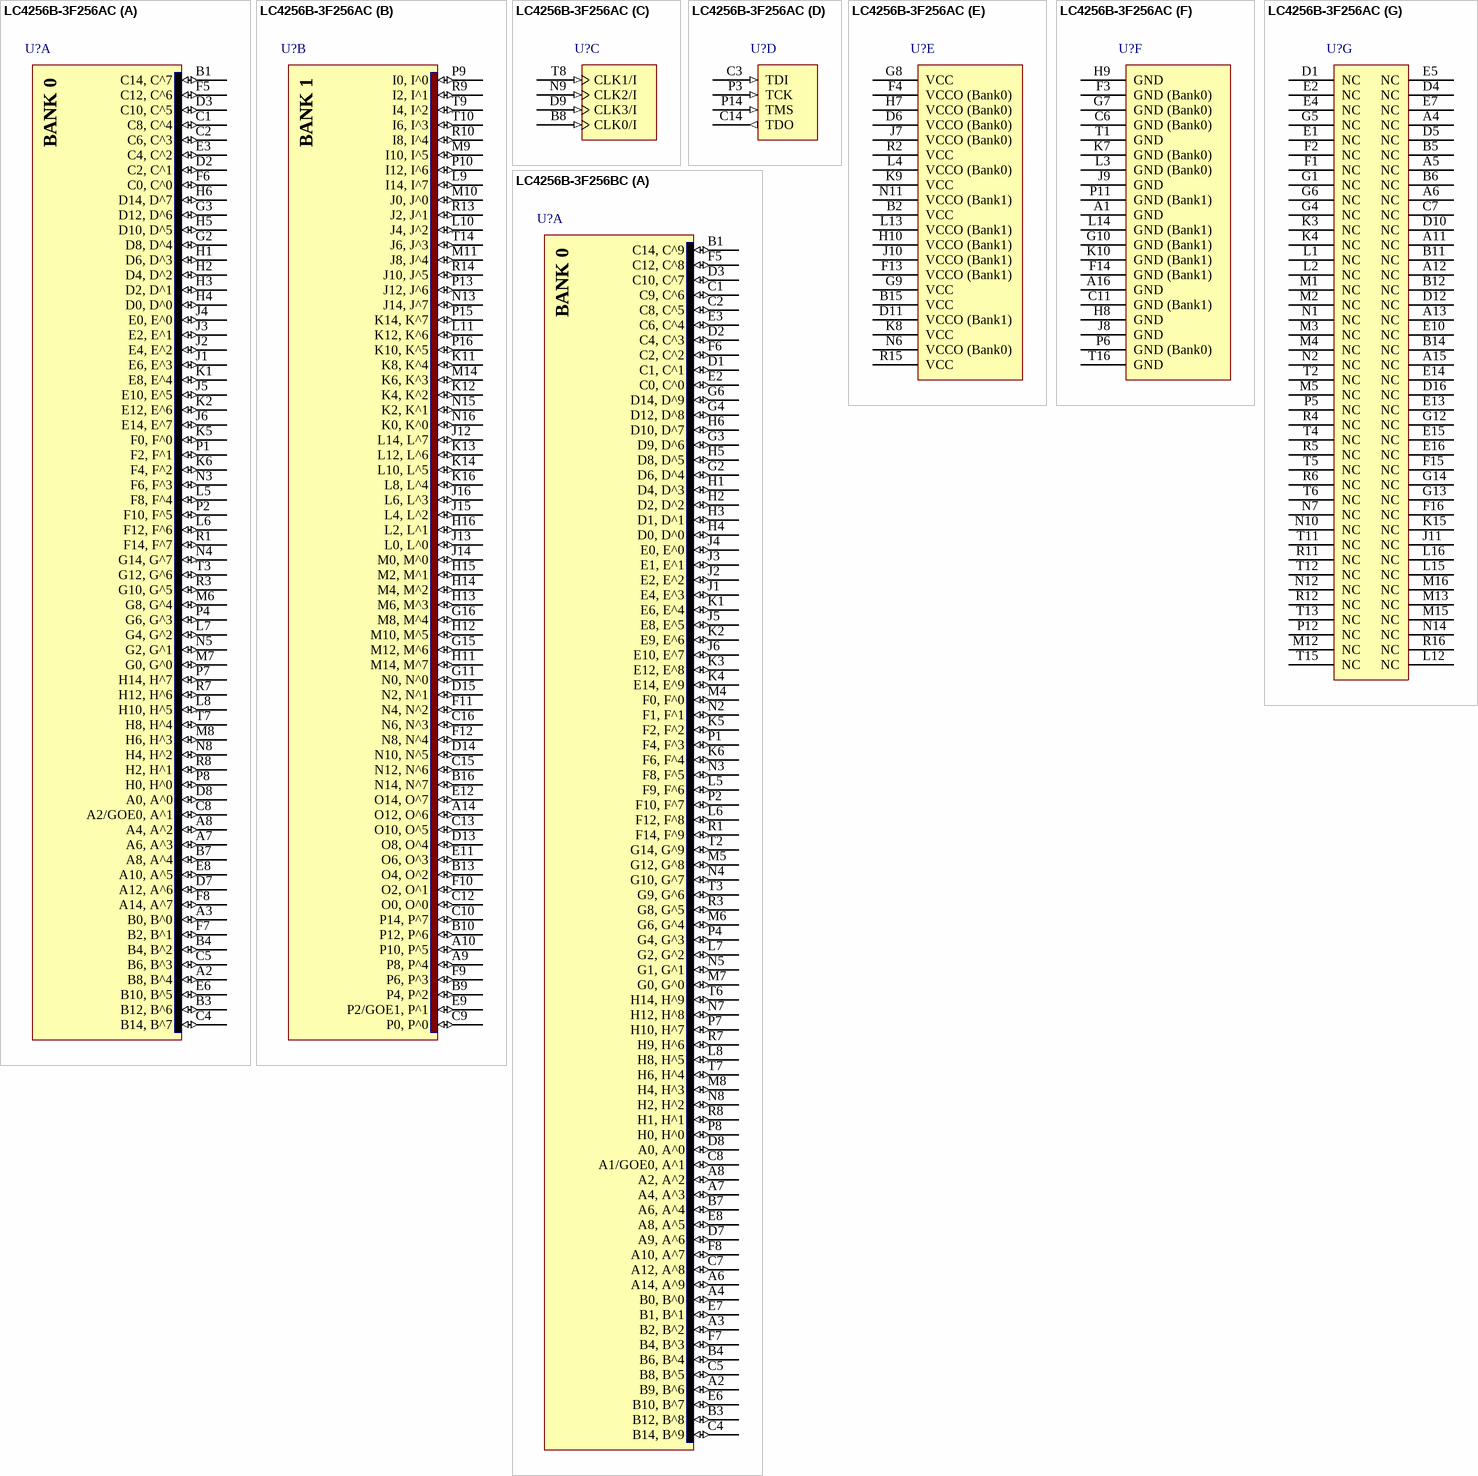
[diagram p17: symbols LC4256B-3F256AC to LC4256B-3F256BC]

## LC4256B-3F256AC
designator U?
ispMACH 4256 SuperFAST High Density PLD, 2.5 V, 128 User I/Os, 256-Ball fpBGA, 3.0 ns, Commercial Grade; Published: 17-Dec-2003; LatestRevisionDate: 30-Mar-2007; LatestRevisionNote: Banks placed in parts.; DatasheetVersion: ver22.3, Mar-2007; PackageVersion: ver01.2 Feb-2007; PackageReference: fpBGA256; Publisher: Altium Limited; PackageDescription: 256-Ball Fine Pitch Ball Grid Array (fpBGA256); Code_IPC: BGA100P16X16-256; ComponentLink1Description: Manufacturer Link; ComponentLink1URL: http://www.latticesemi.com/; ComponentLink2Description: Datasheet; ComponentLink2URL: http://www.latticesemi.com/dynamic/view_document.cfm?document_id=3646
footprint fpBGA256 (BGA, 256-Leads, Body 17x17mm, Pitch 1mm)
3D model 4256B-fpBGA256 (256-Ball Fine Pitch Ball Grid Array (fpBGA256))
part A pins: A2 B8, B^4 (io) "General purpose I/O.", A3 B0, B^0 (io) "General purpose I/O.", A7 A6, A^3 (io) "General purpose I/O.", A8 A4, A^2 (io) "General purpose I/O.", B1 C14, C^7 (io) "General purpose I/O.", B3 B12, B^6 (io) "General purpose I/O.", B4 B4, B^2 (io) "General purpose I/O.", B7 A8, A^4 (io) "General purpose I/O.", C1 C8, C^4 (io) "General purpose I/O.", C2 C6, C^3 (io) "General purpose I/O.", C4 B14, B^7 (io) "General purpose I/O.", C5 B6, B^3 (io) "General purpose I/O.", C8 A2/GOE0, A^1 (io) "Either Global Output Enable Input or general I/O.", D2 C2, C^1 (io) "General purpose I/O.", D3 C10, C^5 (io) "General purpose I/O.", D7 A12, A^6 (io) "General purpose I/O.", D8 A0, A^0 (io) "General purpose I/O.", E3 C4, C^2 (io) "General purpose I/O.", E6 B10, B^5 (io) "General purpose I/O.", E8 A10, A^5 (io) "General purpose I/O.", F5 C12, C^6 (io) "General purpose I/O.", F6 C0, C^0 (io) "General purpose I/O.", F7 B2, B^1 (io) "General purpose I/O.", F8 A14, A^7 (io) "General purpose I/O.", G2 D8, D^4 (io) "General purpose I/O.", G3 D12, D^6 (io) "General purpose I/O.", H1 D6, D^3 (io) "General purpose I/O.", H2 D4, D^2 (io) "General purpose I/O.", H3 D2, D^1 (io) "General purpose I/O.", H4 D0, D^0 (io) "General purpose I/O.", H5 D10, D^5 (io) "General purpose I/O.", H6 D14, D^7 (io) "General purpose I/O.", J1 E6, E^3 (io) "General purpose I/O.", J2 E4, E^2 (io) "General purpose I/O.", J3 E2, E^1 (io) "General purpose I/O.", J4 E0, E^0 (io) "General purpose I/O.", J5 E10, E^5 (io) "General purpose I/O.", J6 E14, E^7 (io) "General purpose I/O.", K1 E8, E^4 (io) "General purpose I/O.", K2 E12, E^6 (io) "General purpose I/O.", K5 F0, F^0 (io) "General purpose I/O.", K6 F4, F^2 (io) "General purpose I/O.", L5 F8, F^4 (io) "General purpose I/O.", L6 F12, F^6 (io) "General purpose I/O.", L7 G4, G^2 (io) "General purpose I/O.", L8 H10, H^5 (io) "General purpose I/O.", M6 G8, G^4 (io) "General purpose I/O.", M7 G0, G^0 (io) "General purpose I/O.", M8 H6, H^3 (io) "General purpose I/O.", N3 F6, F^3 (io) "General purpose I/O.", N4 G14, G^7 (io) "General purpose I/O.", N5 G2, G^1 (io) "General purpose I/O.", N8 H4, H^2 (io) "General purpose I/O.", P1 F2, F^1 (io) "General purpose I/O.", P2 F10, F^5 (io) "General purpose I/O.", P4 G6, G^3 (io) "General purpose I/O.", P7 H14, H^7 (io) "General purpose I/O.", P8 H0, H^0 (io) "General purpose I/O.", R1 F14, F^7 (io) "General purpose I/O.", R3 G10, G^5 (io) "General purpose I/O.", R7 H12, H^6 (io) "General purpose I/O.", R8 H2, H^1 (io) "General purpose I/O.", T3 G12, G^6 (io) "General purpose I/O.", T7 H8, H^4 (io) "General purpose I/O."
part B pins: A9 P8, P^4 (io) "General purpose I/O.", A10 P10, P^5 (io) "General purpose I/O.", A14 O12, O^6 (io) "General purpose I/O.", B9 P4, P^2 (io) "General purpose I/O.", B10 P12, P^6 (io) "General purpose I/O.", B13 O4, O^2 (io) "General purpose I/O.", B16 N14, N^7 (io) "General purpose I/O.", C9 P0, P^0 (io) "General purpose I/O.", C10 P14, P^7 (io) "General purpose I/O.", C12 O0, O^0 (io) "General purpose I/O.", C13 O10, O^5 (io) "General purpose I/O.", C15 N12, N^6 (io) "General purpose I/O.", C16 N6, N^3 (io) "General purpose I/O.", D13 O8, O^4 (io) "General purpose I/O.", D14 N10, N^5 (io) "General purpose I/O.", D15 N2, N^1 (io) "General purpose I/O.", E9 P2/GOE1, P^1 (io) "Either Global Output Enable Input or general I/O.", E11 O6, O^3 (io) "General purpose I/O.", E12 O14, O^7 (io) "General purpose I/O.", F9 P6, P^3 (io) "General purpose I/O.", F10 O2, O^1 (io) "General purpose I/O.", F11 N4, N^2 (io) "General purpose I/O.", F12 N8, N^4 (io) "General purpose I/O.", G11 N0, N^0 (io) "General purpose I/O.", G15 M12, M^6 (io) "General purpose I/O.", G16 M8, M^4 (io) "General purpose I/O.", H11 M14, M^7 (io) "General purpose I/O.", H12 M10, M^5 (io) "General purpose I/O.", H13 M6, M^3 (io) "General purpose I/O.", H14 M4, M^2 (io) "General purpose I/O.", H15 M2, M^1 (io) "General purpose I/O.", H16 L2, L^1 (io) "General purpose I/O.", J12 L14, L^7 (io) "General purpose I/O.", J13 L0, L^0 (io) "General purpose I/O.", J14 M0, M^0 (io) "General purpose I/O.", J15 L4, L^2 (io) "General purpose I/O.", J16 L6, L^3 (io) "General purpose I/O.", K11 K8, K^4 (io) "General purpose I/O.", K12 K4, K^2 (io) "General purpose I/O.", K13 L12, L^6 (io) "General purpose I/O.", K14 L10, L^5 (io) "General purpose I/O.", K16 L8, L^4 (io) "General purpose I/O.", L9 I14, I^7 (io) "General purpose I/O.", L10 J4, J^2 (io) "General purpose I/O.", L11 K12, K^6 (io) "General purpose I/O.", M9 I10, I^5 (io) "General purpose I/O.", M10 J0, J^0 (io) "General purpose I/O.", M11 J8, J^4 (io) "General purpose I/O.", M14 K6, K^3 (io) "General purpose I/O.", N13 J14, J^7 (io) "General purpose I/O.", N15 K2, K^1 (io) "General purpose I/O.", N16 K0, K^0 (io) "General purpose I/O.", P9 I0, I^0 (io) "General purpose I/O.", P10 I12, I^6 (io) "General purpose I/O.", P13 J12, J^6 (io) "General purpose I/O.", P15 K14, K^7 (io) "General purpose I/O.", P16 K10, K^5 (io) "General purpose I/O.", R9 I2, I^1 (io) "General purpose I/O.", R10 I8, I^4 (io) "General purpose I/O.", R13 J2, J^1 (io) "General purpose I/O.", R14 J10, J^5 (io) "General purpose I/O.", T9 I4, I^2 (io) "General purpose I/O.", T10 I6, I^3 (io) "General purpose I/O.", T14 J6, J^3 (io) "General purpose I/O."
part C pins: B8 CLK0/I (in) "Either CLK input or input.", D9 CLK3/I (in) "Either CLK input or input.", N9 CLK2/I (in) "Either CLK input or input.", T8 CLK1/I (in) "Either CLK input or input."
part D pins: C3 TDI (in) "Test Data Input. Loads data into device using 1149.1 state machine.", C14 TDO (out) "Test Data Output. Shifts data out of device using 1149.1.", P3 TCK (in) "Test Clock Input for 1149.1 state machine.", P14 TMS (in) "Test Mode Select Input to control 1149.1 state machine."
part E pins: B2 VCC (power) "Power supply for logic core and JTAG port.", B15 VCC (power) "Power supply for logic core and JTAG port.", D6 VCCO (Bank0) (power) "Power supply pin for I/O bank.", D11 VCCO (Bank1) (power) "Power supply pin for I/O bank.", F4 VCCO (Bank0) (power) "Power supply pin for I/O bank.", F13 VCCO (Bank1) (power) "Power supply pin for I/O bank.", G8 VCC (power) "Power supply for logic core and JTAG port.", G9 VCC (power) "Power supply for logic core and JTAG port.", H7 VCCO (Bank0) (power) "Power supply pin for I/O bank.", H10 VCCO (Bank1) (power) "Power supply pin for I/O bank.", J7 VCCO (Bank0) (power) "Power supply pin for I/O bank.", J10 VCCO (Bank1) (power) "Power supply pin for I/O bank.", K8 VCC (power) "Power supply for logic core and JTAG port.", K9 VCC (power) "Power supply for logic core and JTAG port.", L4 VCCO (Bank0) (power) "Power supply pin for I/O bank.", L13 VCCO (Bank1) (power) "Power supply pin for I/O bank.", N6 VCCO (Bank0) (power) "Power supply pin for I/O bank.", N11 VCCO (Bank1) (power) "Power supply pin for I/O bank.", R2 VCC (power) "Power supply for logic core and JTAG port.", R15 VCC (power) "Power supply for logic core and JTAG port."
part F pins: A1 GND (power) "Ground", A16 GND (power) "Ground", C6 GND (Bank0) (power) "I/O Ground", C11 GND (Bank1) (power) "I/O Ground", F3 GND (Bank0) (power) "I/O Ground", F14 GND (Bank1) (power) "I/O Ground", G7 GND (Bank0) (power) "I/O Ground", G10 GND (Bank1) (power) "I/O Ground", H8 GND (power) "Ground", H9 GND (power) "Ground", J8 GND (power) "Ground", J9 GND (power) "Ground", K7 GND (Bank0) (power) "I/O Ground", K10 GND (Bank1) (power) "I/O Ground", L3 GND (Bank0) (power) "I/O Ground", L14 GND (Bank1) (power) "I/O Ground", P6 GND (Bank0) (power) "I/O Ground", P11 GND (Bank1) (power) "I/O Ground", T1 GND (power) "Ground", T16 GND (power) "Ground"
part G pins: A4 NC "Not Connected.", A5 NC "Not Connected.", A6 NC "Not Connected.", A11 NC "Not Connected.", A12 NC "Not Connected.", A13 NC "Not Connected.", A15 NC "Not Connected.", B5 NC "Not Connected.", B6 NC "Not Connected.", B11 NC "Not Connected.", B12 NC "Not Connected.", B14 NC "Not Connected.", C7 NC "Not Connected.", D1 NC "Not Connected.", D4 NC "Not Connected.", D5 NC "Not Connected.", D10 NC "Not Connected.", D12 NC "Not Connected.", D16 NC "Not Connected.", E1 NC "Not Connected.", E2 NC "Not Connected.", E4 NC "Not Connected.", E5 NC "Not Connected.", E7 NC "Not Connected.", E10 NC "Not Connected.", E13 NC "Not Connected.", E14 NC "Not Connected.", E15 NC "Not Connected.", E16 NC "Not Connected.", F1 NC "Not Connected.", F2 NC "Not Connected.", F15 NC "Not Connected.", F16 NC "Not Connected.", G1 NC "Not Connected.", G4 NC "Not Connected.", G5 NC "Not Connected.", G6 NC "Not Connected.", G12 NC "Not Connected.", G13 NC "Not Connected.", G14 NC "Not Connected.", J11 NC "Not Connected.", K3 NC "Not Connected.", K4 NC "Not Connected.", K15 NC "Not Connected.", L1 NC "Not Connected.", L2 NC "Not Connected.", L12 NC "Not Connected.", L15 NC "Not Connected.", L16 NC "Not Connected.", M1 NC "Not Connected.", M2 NC "Not Connected.", M3 NC "Not Connected.", M4 NC "Not Connected.", M5 NC "Not Connected.", M12 NC "Not Connected.", M13 NC "Not Connected.", M15 NC "Not Connected.", M16 NC "Not Connected.", N1 NC "Not Connected.", N2 NC "Not Connected.", N7 NC "Not Connected.", N10 NC "Not Connected.", N12 NC "Not Connected.", N14 NC "Not Connected.", P5 NC "Not Connected.", P12 NC "Not Connected.", R4 NC "Not Connected.", R5 NC "Not Connected.", R6 NC "Not Connected.", R11 NC "Not Connected.", R12 NC "Not Connected.", R16 NC "Not Connected.", T2 NC "Not Connected.", T4 NC "Not Connected.", T5 NC "Not Connected.", T6 NC "Not Connected.", T11 NC "Not Connected.", T12 NC "Not Connected.", T13 NC "Not Connected.", T15 NC "Not Connected."
part A text: BANK 0
part B text: BANK 1

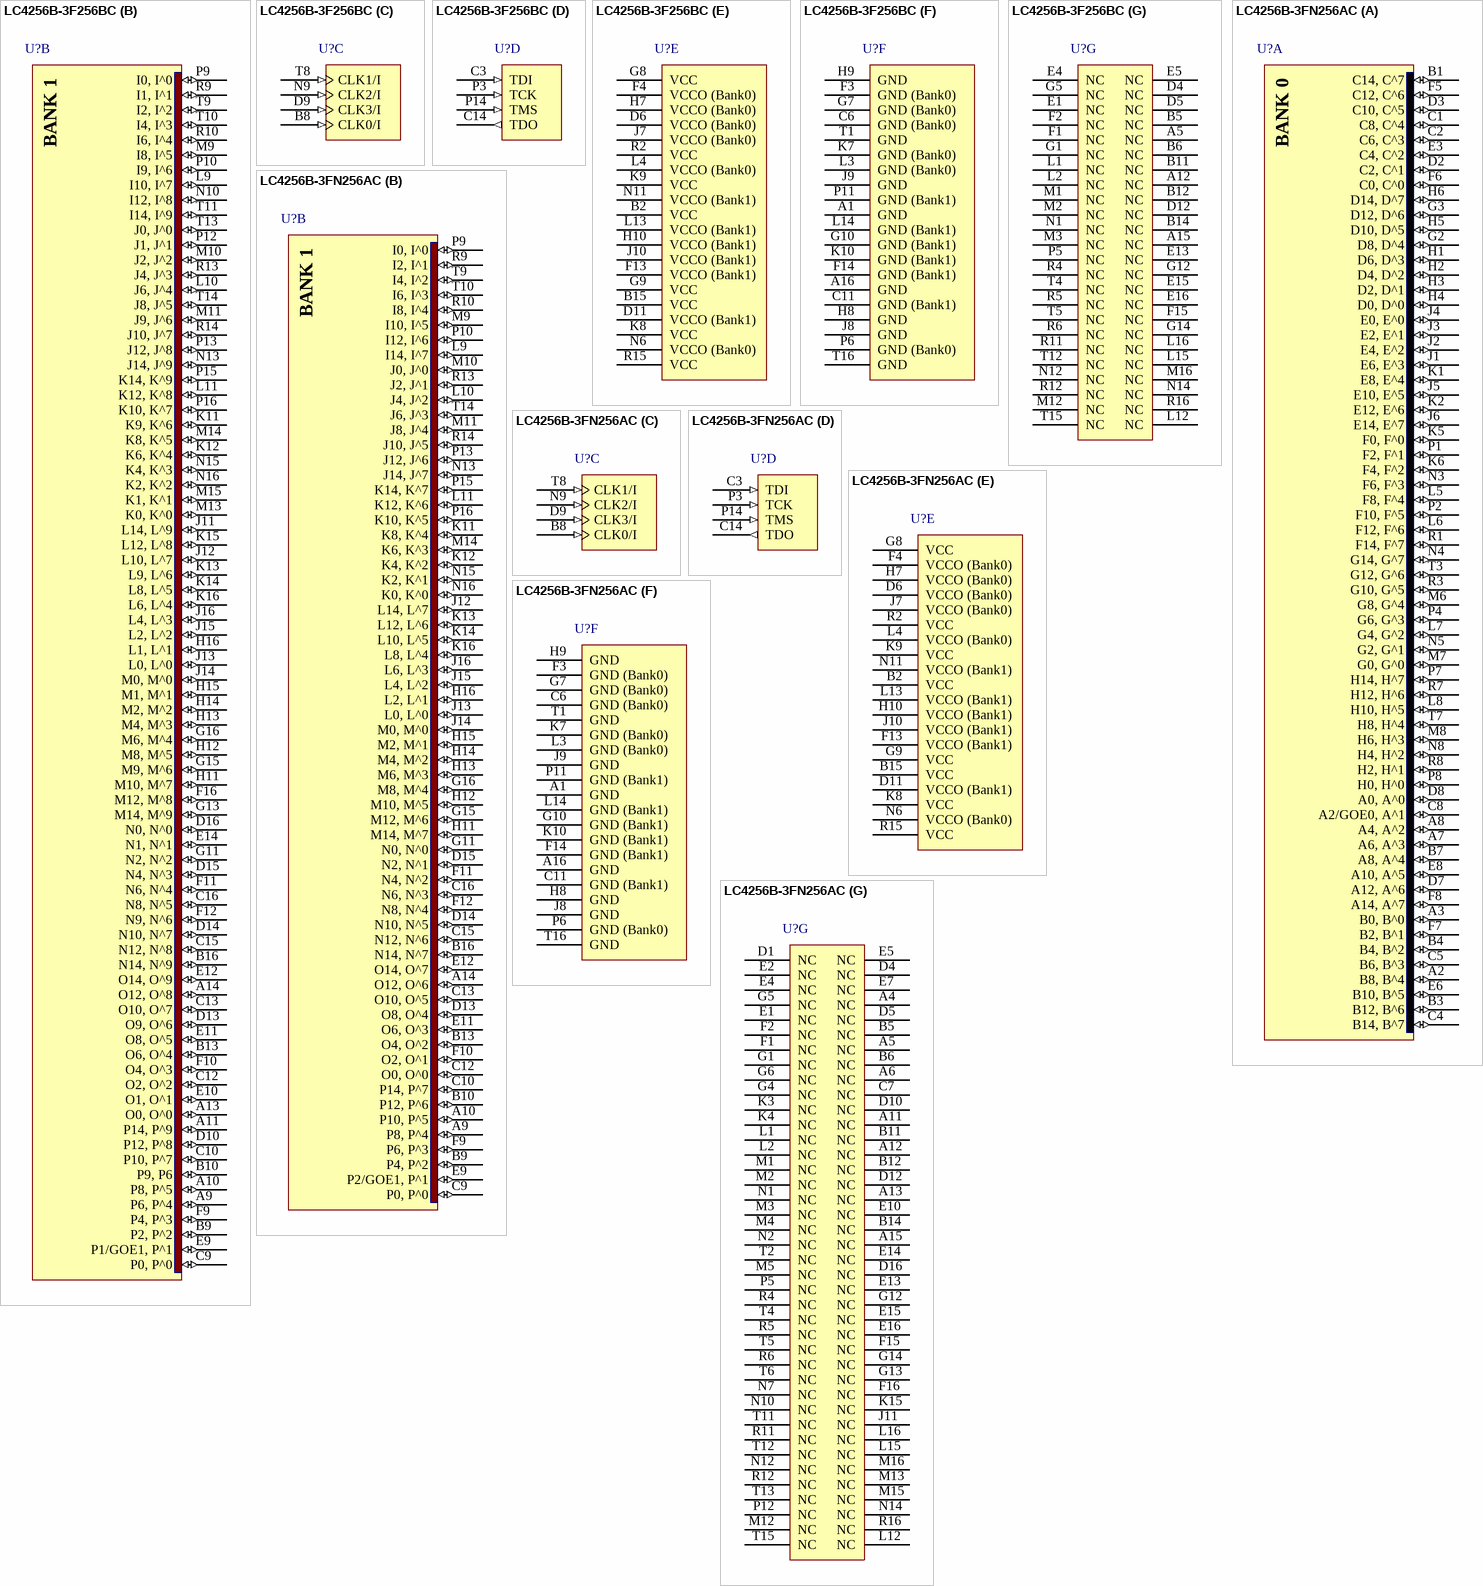
[diagram p18: symbols LC4256B-3F256BC to LC4256B-3FN256AC]